# Altium schematic symbol library BLM21SP102SN1D.SchLib: 1 symbol
Pins are listed as number, name and electrical type; pins without a type are passive.

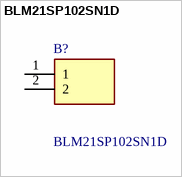
[diagram p0: symbol BLM21SP102SN1D]

## BLM21SP102SN1D
designator B?
BLM21_N1D Series EMI Suppression Filter 1000+/-25% at 100MHz 1.6A @85; Manufacturer_Name: Murata Electronics; Geometry.Height: 1.05mm; Mouser Part Number: 81-BLM21SP102SN1D; Mouser Price/Stock: https://www.mouser.co.uk/ProductDetail/Murata-Electronics/BLM21SP102SN1D?qs=17u8i%2FzlE88oj6hmj%252BXptA%3D%3D; Manufacturer_Part_Number: BLM21SP102SN1D; Datasheet Link: https://www.murata.com/en-us/products/productdetail?partno=BLM21SP102SN1%23
footprint BLM21AG102BH1J
pins: 1, 2